# Altium footprint library sot.PcbLib: 17 footprints (part 2 of 2)
Each footprint in its own frame and in the unit in brackets; x right, y up, seen from the top. Pads: shape width x height; smd on the part's side, far side on the other; paste and mask are expansions set on the pad; w line width, h text height; cw(c..) or ccw(c..) is an arc to the next point about the centre after c.
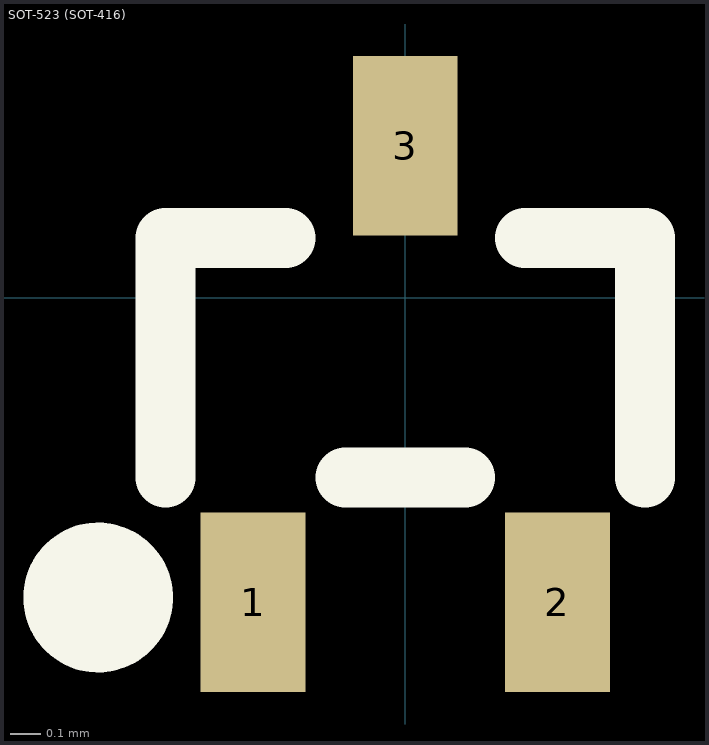
[diagram p1: the footprint, top view; thin cyan lines are the x and y axes]

## SOT-523 (SOT-416) [mm]
height 0.77
pads (3):
  rect 0.35x0.6 smd: 1(-0.508,-1.016) 2(0.508,-1.016) 3(0,0.508)
Top Overlay:
  circle w0.25: c-1.025,-1 r0.125
  lines w0.2: -0.8,-0.6 -0.8,0.2 -0.4,0.2 ; -0.2,-0.6 0.2,-0.6 ; 0.4,0.2 0.8,0.2 0.8,-0.6
3D body "User Library-SOT-523.step": height 0.8, standoff 0, extent -0.8,-1.016 0.8,0.584